# Altium footprint library PcbLib4.PcbLib: 9 footprints
Each footprint in its own frame and in the unit in brackets; x right, y up, seen from the top. Pads: shape width x height; smd on the part's side, far side on the other; paste and mask are expansions set on the pad; w line width, h text height; cw(c..) or ccw(c..) is an arc to the next point about the centre after c.
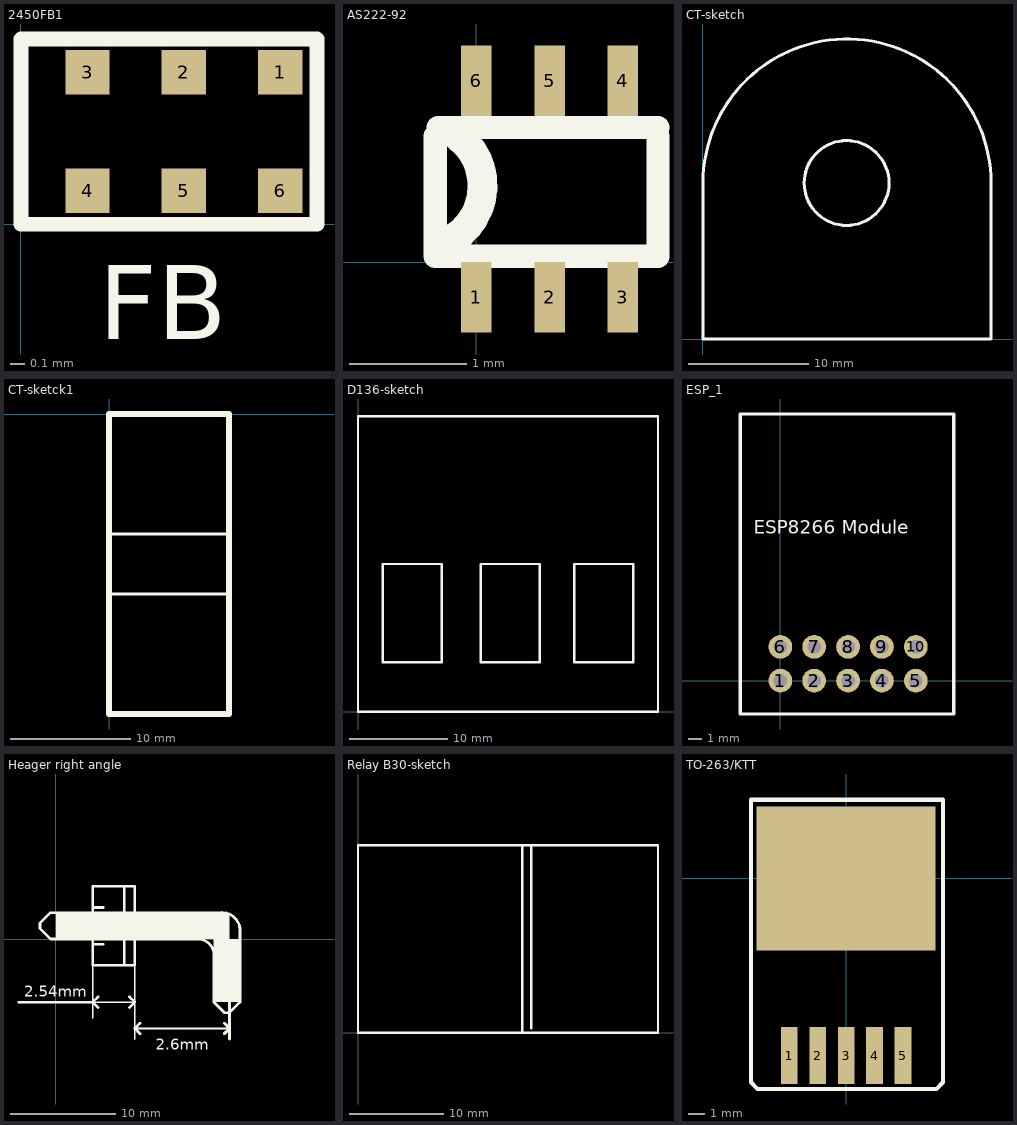
[diagram p0: the footprints below, top view; thin cyan lines are the x and y axes]

## 2450FB1 [mm]
pads (6):
  rect 0.3x0.3 smd: 1(1.75,1.025) 2(1.1,1.025) 3(0.45,1.025) 4(0.45,0.225) 5(1.1,0.225) 6(1.75,0.225)
Top Overlay:
  lines w0.1: 0,0 0,1.25 2,1.25 2,0 0,0
  text "FB" at 0.525,-0.775 h0.5

## AS222-92 [mm]
pads (6):
  rect 0.26x0.6 smd: 1(0,-0.3) 2(0.625,-0.3) 3(1.25,-0.3) 4(1.25,1.55) 5(0.625,1.55) 6(0,1.55)
Top Overlay:
  lines w0.2: -0.35,0.05 -0.35,1.075 ; -0.325,0.05 1.55,0.05 1.55,1.075 ; -0.325,1.15 1.55,1.15
  lines w0.254: -0.2,0.2 ccw(c-0.479,0.652) -0.154,1.073

## CT-sketch [mm]
Top Overlay:
  circle w0.254: c11.964,13 r3.536
  lines w0.254: 0,0 24,0 24,13 ccw(c12,13) 0,13 0,0

## CT-sketck1 [mm]
Top Overlay:
  lines w0.254: 0,-15 10,-15 ; 0,-10 10,-10
  lines w0.5: 0,-25 10,-25 10,0 0,0 0,-25

## D136-sketch [mm]
Top Overlay:
  lines w0.254: 22,5 28,5 28,15 22,15 22,5 ; 22,5 22,5 ; 0,0 0,30 30.5,30 30.5,0 0,0 ; 2.5,5 8.5,5 8.5,15 2.5,15 2.5,5 ; 12.5,5 18.5,5 18.5,15 12.5,15 12.5,5

## ESP_1 [mil]
pads (10):
  round 70 hole 40: 1(0,0) 2(100,0) 3(200,0) 4(300,0) 5(400,0) 6(0,100) 7(100,100) 8(200,100) 9(300,100) 10(400,100)
Top Overlay:
  lines w10: -118.11,-98.43 511.81,-98.43 511.81,787.4 -118.11,787.4 -118.11,-98.43
  text "ESP8266 Module" at -78.74,433.07 h39.37

## Heager right angle [mm]
Top Overlay:
  rectangle: 0,0 16.5,2.5
  rectangle: 15,-6 17.5,0
  lines w0.15: 7.5,-8.5 16.5,-8.5
  lines w0.154: 3.5,-7.5 3.5,-2.5 ; 3.5,-6 7.5,-6 ; 7.5,-9.5 7.5,-2.5
  lines w0.254: 3.5,-0.5 4.5,-0.5 ; 3.5,3 4.5,3 ; 4,-5.5 3.5,-6 ; 6.5,-2.5 6.5,5 ; 7,-6.5 7.5,-6 ; 8,-9 7.5,-8.5 ; 8,-8 7.5,-8.5 ; 13.5,0 cw(c13.5,-1.5) 15,-1.5 15,-6 16,-7 16.5,-7 17.5,-6 17.5,-5.5 17.5,1 ccw(c15.75,0.75) 15.5,2.5 0,2.5 -0.5,2.5 -1.5,1.5 -1.5,1 -0.5,0 0,0 14,0 ; 16,-9 16.5,-8.5 ; 16,-8 16.5,-8.5 ; 16.5,-9.5 16.5,-5 ; -3.5,-6 3.5,-6 ; -3.5,-6 -3.5,-6 ; 3.5,-6 4,-6.5 3.5,-6 ; 3.5,-6 3.5,-6 ; 7,-5.5 7.5,-6 ; 7,-5.5 7,-5.5 ; 7,-5.5 7.5,-6 ; 7.5,-8.5 7.5,-8.5 ; 7.5,-8.5 7.5,-8.5 ; 7.5,-8.5 7.5,-8.5 ; 7.5,-6 7.5,-6 ; 7.5,-6 7.5,-6 ; 16.5,-8.5 16.5,-8.5 ; 16.5,-8.5 16.5,-8.5 ; 3.5,-2.5 7.5,-2.5 7.5,5 3.5,5 3.5,-2.5
  text "2.6mm" at 9.5,-10.5 h1.02
  text "2.54mm" at -3,-5.5 h1.02
Bottom Overlay:
  lines w0.254: 1,3 1.5,3.5 ; 1,4.5 1.5,5 ; 1,6 1.5,6.5 ; 1,7.5 1.5,8 ; 1,10.5 1,-2.5 ; 1.5,9.5 3,9.5 ; 2.5,-2.5 3.5,-1.5 2,-1.5 ; 3.5,2 3,1.5 ; 3.5,4 3,3.5 ; 3.5,5.5 3,5 ; 3.5,7 3,6.5 ; 3.5,8.5 3,8 ; 3.5,10 3,9.5 ; 3.5,10.5 3.5,-2.5 1,-2.5 ; 7.75,-5 7.75,-4.75 10,-2.5 ; 9.5,-5 12,-2.5 ; 12,-5 12,-4.5 14,-2.5 ; 17.5,-5 20,-2.5 ; 20,-5 22.5,-2.5 ; 22.5,-5 25,-2.5 7.5,-2.5 7.5,-5 8,-5 25,-5 ; 1,-2.5 2,-1.5 ; 1.5,3.5 3,3.5 ; 1.5,3.5 3,5 ; 1.5,3.5 1.5,3.5 ; 1.5,5 3,5 ; 1.5,5 3,6.5 ; 1.5,6.5 3,6.5 ; 1.5,6.5 3,8 ; 1.5,8 3,8 ; 1.5,8 3,9.5 ; 2,-1.5 3,-0.5 1,-0.5 3,1.5 ; 3,1.5 1,1.5 3,3.5 ; 3,1.5 3,1.5 ; 3,3.5 3,3.5 ; 3,5 3,5 ; 7.5,-3.5 8.5,-2.5 7.5,-3.5

## Relay B30-sketch [mm]
Top Overlay:
  lines w0.254: 17.5,0 17.5,20 ; 18.5,0.5 18.5,20 ; 0,0 0,20 32,20 32,0 0,0

## TO-263/KTT [mm] "TO-263/KTT5 pins"
pads (6):
  rect 1x3.4 smd: 1(-3.4,-10.6) 2(-1.7,-10.6) 3(0,-10.6) 4(1.7,-10.6) 5(3.4,-10.6)
  rect 10.7x8.6 smd: ""(0,0)
Top Overlay:
  lines w0.254: 5.8,4.7 -5.7,4.7 -5.7,-12.2 -5.3,-12.6 5.4,-12.6 5.8,-12.2 5.8,4.7 ; 5.8,4.7 5.8,4.7